# EAGLE library part SWITCH:5PST (library QuantumOptics)
5 position DIP switch, through-hole.
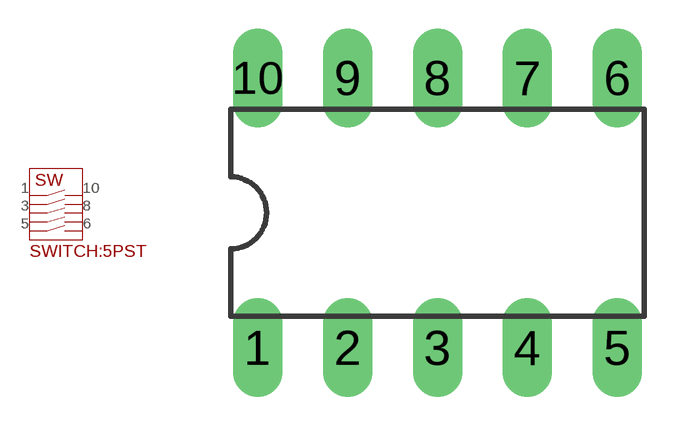
[diagram p81: symbol with the pads of DIL10; footprint DIL10]

Designator prefix SW

## SWITCH:5PST-DIL10  [DIL10]
1  1A
2  2A
3  3A
4  4A
5  5A
6  5B
7  4B
8  3B
9  2B
10  1B

## Footprint DIL10 (pad centres in mm)
Dual Inline Pins, 10 pins, AKA DIP-10. Standard 0.1" x 0.3" with 0.032" or 0.035" drill.
drill 0.889 long: 1 -6.35,-3.81; 2 -3.81,-3.81; 3 -1.27,-3.81; 4 1.27,-3.81; 5 3.81,-3.81; 6 3.81,3.81; 7 1.27,3.81; 8 -1.27,3.81; 9 -3.81,3.81; 10 -6.35,3.81